# Altium schematic symbol library Laser Controller.SchLib: 39 symbols
Pins are listed as number, name and electrical type; pins without a type are passive.

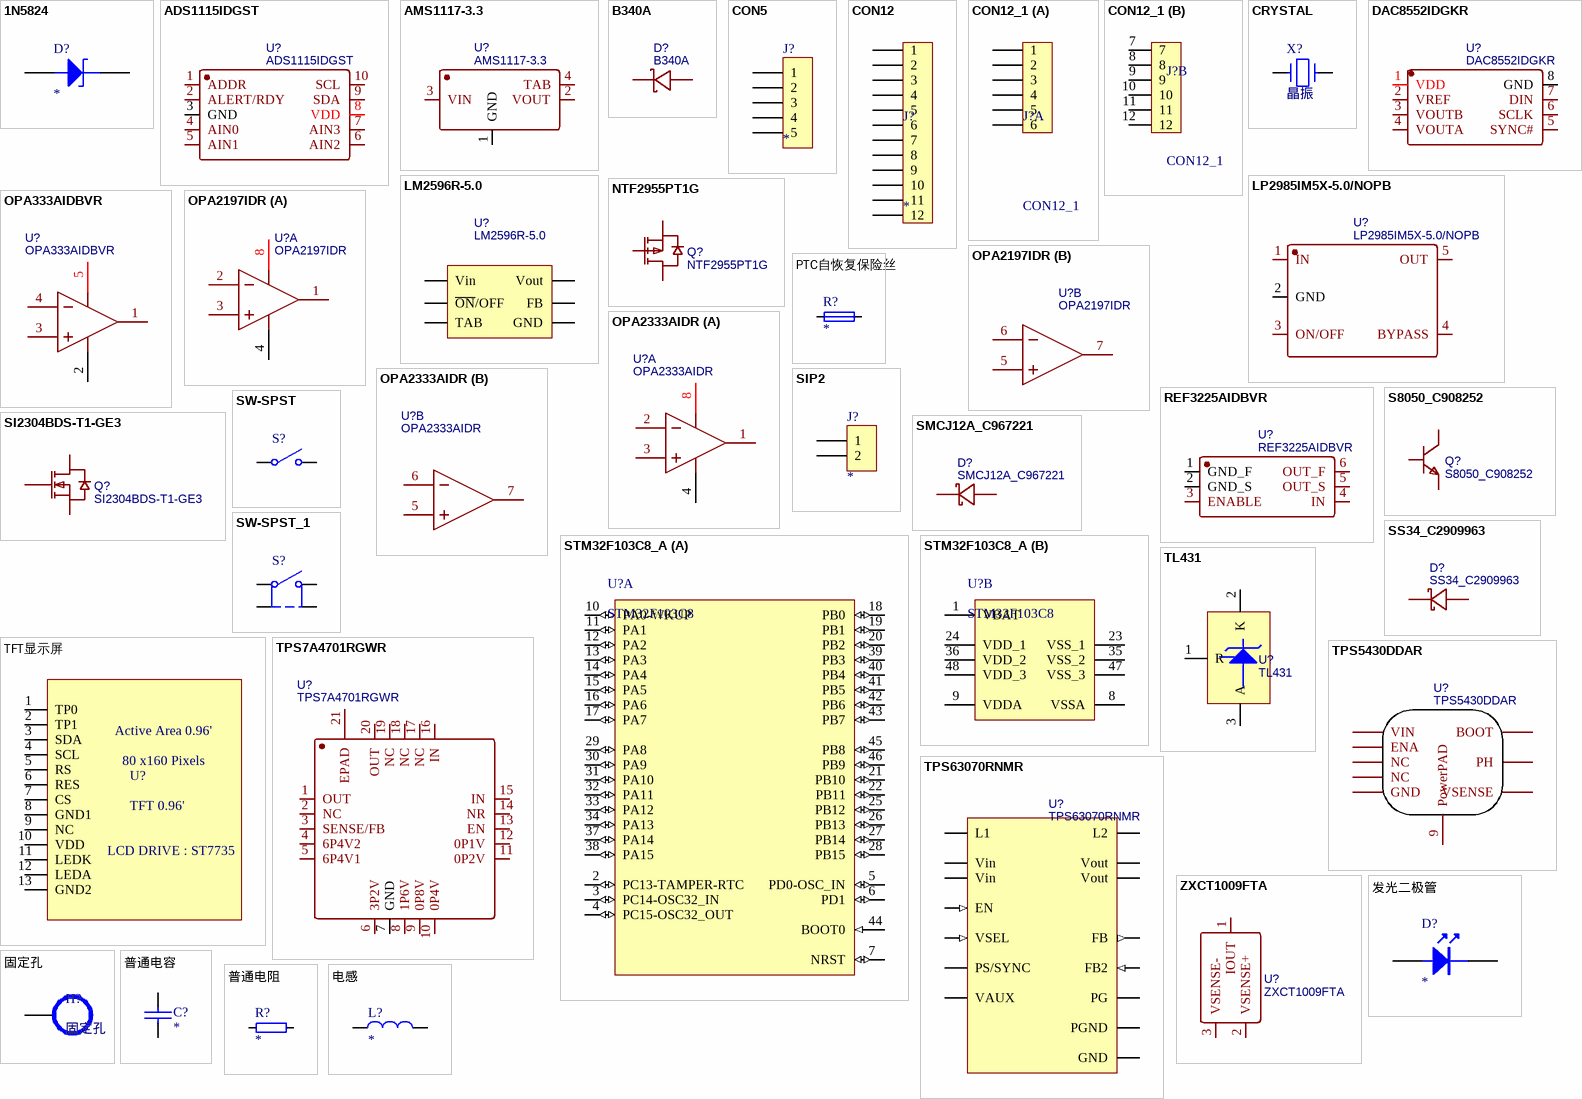
[diagram p0: symbols 1N5824 to 电感]

## 1N5824
designator D?
Zener Diode
pins: 1 A, 2 K

## ADS1115IDGST
designator U?
BOM_Manufacturer: Texas Instruments; Contributor: LCSC; BOM_Supplier: LCSC; BOM_Supplier Part: C468683; BOM_Manufacturer Part: ADS1115IDGST; BOM_JLCPCB Part Class: Extended Part; spicePre: U; spiceSymbolName: ADS1115IDGST
footprint VSSOP-10_L3.0-W3.0-P0.50-LS4.9-BL
pins: 1 ADDR, 2 ALERT/RDY, 3 GND, 4 AIN0, 5 AIN1, 6 AIN2, 7 AIN3, 8 VDD, 9 SDA, 10 SCL

## AMS1117-3.3
designator U?
BOM_Manufacturer: Youtai Semiconductor Co., Ltd.; Contributor: LCSC; BOM_Supplier: LCSC; BOM_Supplier Part: C347256; BOM_Manufacturer Part: AMS1117-3.3; BOM_JLCPCB Part Class: Extended Part; spicePre: U; spiceSymbolName: AMS1117-3.3_C347256
footprint SOT-223-4_L6.5-W3.5-P2.30-LS7.0-BR
pins: 1 GND, 2 VOUT, 3 VIN, 4 TAB

## B340A
designator D?
BOM_Manufacturer: MDD; BOM_Supplier: LCSC; BOM_Manufacturer Part: B340A; BOM_Supplier Part: C64982; BOM_JLCPCB Part Class: Extended Part; spicePre: D; spiceSymbolName: B340A
footprint SMA_L4.3-W2.6-LS5.2-RD
pins: 1 K, 2 A

## CON5
designator J?
Connector
pins: 1, 2, 3, 4, 5

## CON12
designator J?
Connector
pins: 1, 2, 3, 4, 5, 6, 7, 8, 9, 10, 11, 12

## CON12_1
designator J?
Connector
part A pins: 1, 2, 3, 4, 5, 6
part B pins: 7, 8, 9, 10, 11, 12

## CRYSTAL
designator X?, comment 晶振
Crystal
pins: 1, 2
2 alternate drawings of the same symbol

## DAC8552IDGKR
designator U?
BOM_Manufacturer: Texas Instruments; Contributor: LCSC; BOM_Supplier: LCSC; BOM_Supplier Part: C136020; BOM_Manufacturer Part: DAC8552IDGKR; BOM_JLCPCB Part Class: Extended Part; spicePre: U; spiceSymbolName: DAC8552IDGKR
footprint VSSOP-8_L3.0-W3.0-P0.65-LS5.0-BL
pins: 1 VDD, 2 VREF, 3 VOUTB, 4 VOUTA, 5 SYNC#, 6 SCLK, 7 DIN, 8 GND

## LM2596R-5.0
designator U?
BOM_Manufacturer: HTC; BOM_Supplier: LCSC; BOM_Manufacturer Part: LM2596R-5.0; BOM_Supplier Part: C77782; BOM_JLCPCB Part Class: Extended Part; spicePre: U; spiceSymbolName: LM2596R-5.0
footprint TO-263-5_L10.2-W8.6-P1.70-LS14.4-TL
pins: 1 Vin, 2 Vout, 3 GND, 4 FB, 5 ~{ON}/OFF, 6 TAB

## LP2985IM5X-5.0/NOPB
designator U?
BOM_Manufacturer: Texas Instruments; Contributor: LCSC; BOM_Supplier: LCSC; BOM_Supplier Part: C73908; BOM_Manufacturer Part: LP2985IM5X-5.0/NOPB; BOM_JLCPCB Part Class: Extended Part; spicePre: U; spiceSymbolName: LP2985IM5X-5.0/NOPB
footprint SOT-23-5_L3.0-W1.7-P0.95-LS2.8-BR
pins: 1 IN, 2 GND, 3 ON/OFF, 4 BYPASS, 5 OUT

## NTF2955PT1G
designator Q?
BOM_Manufacturer: VBsemi Elec; Contributor: LCSC; BOM_Supplier: LCSC; BOM_Supplier Part: C710036; BOM_Manufacturer Part: NTF2955PT1G; BOM_JLCPCB Part Class: Extended Part; spicePre: Q; spiceSymbolName: NTF2955PT1G
footprint SOT-223-4_L6.5-W3.5-P2.30-LS7.0-BR
pins: 1 G, 2 D, 3 S

## OPA333AIDBVR
designator U?
BOM_Manufacturer: TI; Contributor: LCSC; BOM_Supplier: LCSC; BOM_Manufacturer Part: OPA333AIDBVR; BOM_Supplier Part: C30878; BOM_JLCPCB Part Class: Extended Part; spicePre: U; spiceSymbolName: OPA333AIDBVR
footprint SOT-23-5_L3.0-W1.7-P0.95-LS2.8-BR
pins: 1 OUT, 2 V-, 3 IN+, 4 IN-, 5 V+

## OPA2197IDR
designator U?
BOM_Manufacturer: TI; Contributor: LCSC; BOM_Supplier: LCSC; BOM_Manufacturer Part: OPA2197IDR; BOM_Supplier Part: C139363; BOM_JLCPCB Part Class: Extended Part; spicePre: U; spiceSymbolName: OPA2197IDR
footprint SOIC-8_L4.9-W3.9-P1.27-LS6.0-BL
part A pins: 1 OUT A, 2 IN A-, 3 IN A+, 4 V-, 8 V+
part B pins: 5 IN A+, 6 IN A-, 7 OUT A

## OPA2333AIDR
designator U?
BOM_Manufacturer: TI; subpart_no: 1; tags: Low Noise Operational Amplifier; BOM_Supplier Part: C38732; BOM_Supplier: LCSC; BOM_Manufacturer Part: OPA2333AIDR; image: http://image.lceda.cn/szlcsc/C38732.jpg; BOM_JLCPCB Part Class: Extended Part; spicePre: U; spiceSymbolName: OPA2333AIDR
footprint SOP-8_L4.9-W3.9-P1.27-LS6.0-BL
part A pins: 1 OUT A, 2 IN A-, 3 IN A+, 4 V-, 8 V+
part B pins: 5 IN A+, 6 IN A-, 7 OUT A

## PTC自恢复保险丝
designator R?
PTC自恢复保险丝
footprint 0805R
pins: 1, 2

## REF3225AIDBVR
designator U?
BOM_Manufacturer: TI; BOM_Supplier: LCSC; BOM_Manufacturer Part: REF3225AIDBVR; BOM_Supplier Part: C40852; BOM_JLCPCB Part Class: Extended Part; spicePre: U; spiceSymbolName: REF3225AIDBVR
footprint SOT-23-6_L2.9-W1.6-P0.95-LS2.8-BL
pins: 1 GND_F, 2 GND_S, 3 ENABLE, 4 IN, 5 OUT_S, 6 OUT_F

## S8050_C908252
designator Q?
BOM_Manufacturer: FUXINSEMI; BOM_Manufacturer Part: S8050; Contributor: LCSC; BOM_Supplier: LCSC; BOM_Supplier Part: C908252; BOM_JLCPCB Part Class: Extended Part; spicePre: Q; spiceSymbolName: S8050_C908252
footprint SOT-23-3_L2.9-W1.3-P1.90-LS2.4-BR
pins: 1 B, 2 E, 3 C

## SI2304BDS-T1-GE3
designator Q?
BOM_Manufacturer: VISHAY; BOM_Supplier: LCSC; BOM_Manufacturer Part: SI2304BDS-T1-GE3; BOM_Supplier Part: C81446; BOM_JLCPCB Part Class: Extended Part; spicePre: Q; spiceSymbolName: SI2304BDS-T1-GE3
footprint SOT-23_L2.9-W1.3-P1.90-LS2.4-BR
pins: 1 G, 2 S, 3 D

## SIP2
designator J?
jointbar
footprint SIP2-2.0
footprint SIP2-2.54
pins: 1, 2

## SMCJ12A_C967221
designator D?
BOM_Manufacturer: Boarden(宝宫); Contributor: LCSC; BOM_Supplier: LCSC; BOM_Supplier Part: C967221; BOM_Manufacturer Part: SMCJ12A; spicePre: D; spiceSymbolName: SMCJ12A_C967221
footprint SMC_L6.9-W5.9-LS8.0-RD
pins: 1 C, 2 A

## SS34_C2909963
designator D?
BOM_Manufacturer: YONGYUTAI(永裕泰); BOM_Manufacturer Part: SS34; Contributor: LCSC; BOM_Supplier: LCSC; BOM_Supplier Part: C2909963; BOM_JLCPCB Part Class: Extended Part; spicePre: D; spiceSymbolName: SS34_C2909963
footprint SMA_L4.2-W2.7-LS5.0-RD
pins: 1, 2

## STM32F103C8_A
designator U?, comment STM32F103C8
Flaah:64/RAM:20/IO:36; BOM名称: 32位STM单片机; 版权归属: 源创客; 学习资源: www.ooocke.com
footprint LQFP-48_L7.0-W7.0-P0.50-LS9.0-BL
part A pins: 2 PC13-TAMPER-RTC (io), 3 PC14-OSC32_IN (io), 4 PC15-OSC32_OUT (io), 5 PD0-OSC_IN (io), 6 PD1 (io), 7 NRST (io), 10 PA0-WKUP (io), 11 PA1 (io), 12 PA2 (io), 13 PA3 (io), 14 PA4 (io), 15 PA5 (io), 16 PA6 (io), 17 PA7 (io), 18 PB0 (io), 19 PB1 (io), 20 PB2 (io), 21 PB10 (io), 22 PB11 (io), 25 PB12 (io), 26 PB13 (io), 27 PB14 (io), 28 PB15 (io), 29 PA8 (io), 30 PA9 (io), 31 PA10 (io), 32 PA11 (io), 33 PA12 (io), 34 PA13 (io), 37 PA14 (io), 38 PA15 (io), 39 PB3 (io), 40 PB4 (io), 41 PB5 (io), 42 PB6 (io), 43 PB7 (io), 44 BOOT0 (in), 45 PB8 (io), 46 PB9 (io)
part B pins: 1 VBAT (power), 8 VSSA (power), 9 VDDA (power), 23 VSS_1 (power), 24 VDD_1 (power), 35 VSS_2 (power), 36 VDD_2 (power), 47 VSS_3 (power), 48 VDD_3 (power)

## SW-SPST
designator S?
Single-Pole, Single-Throw Switch; Published: 24-Mar-1999; LatestRevisionDate: 17-Jul-2002; LatestRevisionNote: Re-released for DXP Platform.; PackageReference: SPST-2; Publisher: Altium Limited
pins: 1 COMMON, 2 NO

## SW-SPST_1
designator S?
Single-Pole, Single-Throw Switch; Published: 24-Mar-1999; LatestRevisionDate: 17-Jul-2002; LatestRevisionNote: Re-released for DXP Platform.; PackageReference: SPST-2; Publisher: Altium Limited
pins: 1 COMMON, 2 NO, 3, 4

## TFT显示屏
designator U?, comment TFT 0.96'
pins: 1 TP0, 2 TP1, 3 SDA, 4 SCL, 5 RS, 6 RES, 7 CS, 8 GND1, 9 NC, 10 VDD, 11 LEDK, 12 LEDA, 13 GND2
text: Active Area 0.96'; 80 x160 Pixels; LCD DRIVE : ST7735

## TL431
designator U?
BOM_Manufacturer: JSMSEMI; Contributor: LCSC; BOM_Supplier: LCSC; BOM_Supplier Part: C963380; BOM_Manufacturer Part: TL431; BOM_JLCPCB Part Class: Extended Part; spicePre: U; spiceSymbolName: TL431_C963380
footprint SOT-23-3_L2.9-W1.4-P1.90-LS2.6-BR
pins: 1 R, 2 K, 3 A

## TPS7A4701RGWR
designator U?
BOM_Manufacturer: Texas Instruments; Contributor: LCSC; BOM_Supplier: LCSC; BOM_Supplier Part: C90084; BOM_Manufacturer Part: TPS7A4701RGWR; BOM_JLCPCB Part Class: Extended Part; spicePre: U; spiceSymbolName: TPS7A4701RGWR
footprint VQFN-20_L5.0-W5.0-P0.65-TL-EP
pins: 1 OUT, 2 NC, 3 SENSE/FB, 4 6P4V2, 5 6P4V1, 6 3P2V, 7 GND, 8 1P6V, 9 0P8V, 10 0P4V, 11 0P2V, 12 0P1V, 13 EN, 14 NR, 15 IN, 16 IN, 17 NC, 18 NC, 19 NC, 20 OUT, 21 EPAD

## TPS5430DDAR
designator U?
BOM_Manufacturer: TI; BOM_Supplier: LCSC; BOM_Manufacturer Part: TPS5430DDAR; BOM_Supplier Part: C9864; BOM_JLCPCB Part Class: Basic Part; spicePre: U; spiceSymbolName: TPS5430DDAR
footprint SOIC-8_L5.0-W4.0-P1.27-LS6.0-BL-EP2.0
pins: 1 BOOT, 2 NC, 3 NC, 4 VSENSE, 5 ENA, 6 GND, 7 VIN, 8 PH, 9 PowerPAD

## TPS63070RNMR
designator U?
BOM_Manufacturer: TI; BOM_Supplier: LCSC; BOM_Manufacturer Part: TPS63070RNMR; BOM_Supplier Part: C109322; BOM_JLCPCB Part Class: Extended Part; spicePre: U; spiceSymbolName: TPS63070RNMR
footprint VQFN-HR-15_L3.0-W2.5-P0.50-BL_TPS63070RNMR
pins: 1 PS/SYNC, 2 PG, 3 VAUX, 4 GND, 5 FB (out), 6 FB2 (in), 7 Vout, 8 Vout, 9 L2, 10 PGND, 11 L1, 12 Vin, 13 Vin, 14 EN (in), 15 VSEL (in)

## ZXCT1009FTA
designator U?
BOM_Manufacturer: Diodes Incorporated; Contributor: LCSC; BOM_Supplier: LCSC; BOM_Supplier Part: C83670; BOM_Manufacturer Part: ZXCT1009FTA; BOM_JLCPCB Part Class: Extended Part; spicePre: U; spiceSymbolName: ZXCT1009FTA
footprint SOT-23_L2.9-W1.3-P0.95-LS2.4-L-CW
pins: 1 IOUT, 2 VSENSE+, 3 VSENSE-

## 发光二极管
designator D?
footprint DIODE0.4A
pins: 1, 2

## 固定孔
designator H?
footprint 铜柱孔3
pins: 11

## 普通电容
designator C?
Capacitor
footprint RAD0.1
footprint RAD0.2
footprint RAD0.3
pins: 1, 2

## 普通电阻
designator R?
footprint AXIAL0.3
footprint AXIAL0.4
footprint AXIAL0.5
pins: 1, 2

## 电感
designator L?
电感
footprint SLF10145
footprint SLF12565
pins: 1, 2

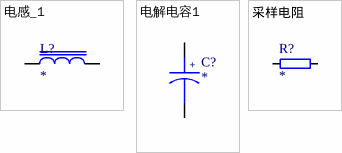
[diagram p1: symbols 电感_1 to 采样电阻]

## 电感_1
designator L?
电感
footprint SLF10145
footprint SLF12565
pins: 1, 2

## 电解电容1
designator C?
Capacitor
pins: 1, 2
text: +

## 采样电阻
designator R?
footprint AXIAL0.3
footprint AXIAL0.4
footprint AXIAL0.5
pins: 1, 2